# Altium schematic symbol library IXBOD1-08.SchLib: 1 symbol
Pins are listed as number, name and electrical type; pins without a type are passive.

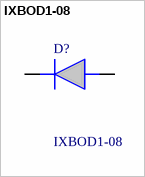
[diagram p0: symbol IXBOD1-08]

## IXBOD1-08
designator D?
Sidacs 1 Amps 800V; Manufacturer_Name: LITTELFUSE; Geometry.Height: 4mm; Mouser Part Number: 747-IXBOD1-08; Mouser Price/Stock: https://www.mouser.co.uk/ProductDetail/IXYS/IXBOD1-08?qs=t7yjd2JO%2FgS4U23Iqe6lMg%3D%3D; Manufacturer_Part_Number: IXBOD1-08; Datasheet Link: http://www.hotenda.com/datasheet-html/522866/1/IXBOD1-08.html
footprint IXBOD108
pins: 1 A, 2 K